# Altium integrated library ECWFG2J105Q1.IntLib: 1 symbol
Pins are listed as number, name and electrical type; pins without a type are passive.

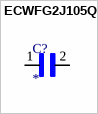
[diagram p0: symbol ECWFG2J105Q1]

## ECWFG2J105Q1
designator C?
Metallized Polypropylene Film Capacitor; MP: ECWFG2J105Q1; MF: Panasonic; SnapEDA_Link: https://www.snapeda.com/parts/ECWFG2J105Q1/Panasonic/view-part/?ref=snap; Availability: In Stock; Purchase-URL: https://pricing.snapeda.com/search/part/ECWFG2J105Q1/?ref=eda; Value: *; Price: None; Package: MOLDED-2 Panasonic; Check_prices: https://www.snapeda.com/parts/ECWFG2J105Q1/Panasonic/view-part/?ref=eda
footprint CAPRR2250W100L2700T1050H1900
pins: 1, 2